# EAGLE library part LINEAR,DIFFAMP,4R (library QuantumOptics)
Difference Amp with four resistors, such as Analog Devices' AD8274.
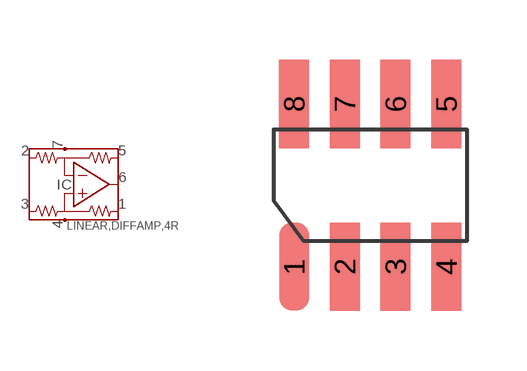
[diagram p164: symbol with the pads of SOIC-8; footprint SOIC-8]

Designator prefix IC

## LINEAR,DIFFAMP,4R-SOIC8  [SOIC-8]
1  R+OUT
2  R-IN
3  R+IN
4  V-
5  R-OUT
6  OUT
7  V+

## Footprint SOIC-8 (pad centres in mm)
SOIC-8 (AKA SO-8), pads on 0.050" grid.
smd 0.75 x 2.2: 1 -1.27,-2.032; 2 0,-2.032; 3 1.27,-2.032; 4 2.54,-2.032; 5 2.54,2.032; 6 1.27,2.032; 7 0,2.032; 8 -1.27,2.032